# Altium footprint library conn.PcbLib: 1 footprints
Each footprint in its own frame and in the unit in brackets; x right, y up, seen from the top. Pads: shape width x height; smd on the part's side, far side on the other; paste and mask are expansions set on the pad; w line width, h text height; cw(c..) or ccw(c..) is an arc to the next point about the centre after c.
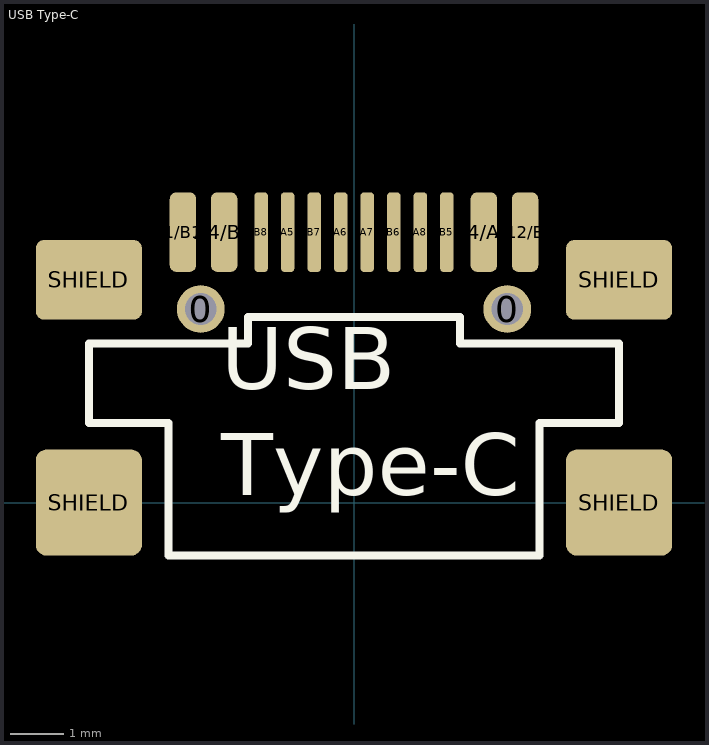
[diagram p0: the footprint, top view; thin cyan lines are the x and y axes]

## USB Type-C [mm] "USB Type-C, Aliexpress"
pads (18):
  round 0.9 hole 0.6: 0(-2.89,3.65) 0(2.89,3.65)
  rrect50% 0.5x1.5 smd: A1/B12(-3.225,5.1) A4/B9(-2.45,5.1) A12/B1(3.225,5.1) B4/A9(2.45,5.1)
  rrect50% 0.25x1.5 smd: A5(-1.25,5.1) A6(-0.25,5.1) A7(0.25,5.1) A8(1.25,5.1) B5(1.75,5.1) B6(0.75,5.1) B7(-0.75,5.1) B8(-1.75,5.1)
  rrect20% 2x2 smd: SHIELD(-5,0) SHIELD(5,0)
  rrect20% 2x1.5 smd: SHIELD(-5,4.2) SHIELD(5,4.2)
Top Overlay:
  lines w0.15: -5,1.5 -5,3 -2,3 -2,3.5 2,3.5 2,3 5,3 5,1.5 3.5,1.5 3.5,-1 -3.5,-1 -3.5,1.5 -5,1.5
  text "USB / Type-C" at -2.5,-0.25 h2
3D body "User Library-TYPE-C 16P SMD.step": height 3.15, standoff -0.2, extent -5.7,-2.675 5.7,5.029